# EAGLE library part 691309410006 (library Wurth_Elektronik_Electromechanic_Terminal_Blocks_Connectors_rev16b)
WR - TBL Serie 3094 - 7.62mm Reversed Gender Horizontal PCB Header=>Code : Con_TBL_Pluggable_7.62_PCB_H <http://katalog.we-online.de/media/images/eican/Con_TBL_Pluggable_7.62_PCB_H_6913094100xx_pf2.jpg> Details see: http://katalog.we-online.de/en/em/TBL_7_62_3097_REVERSED_GENDER_HORIZONTAL_PCB_HEADER_69130941000X Created 2014-06-25, Karrer Zheng 2014 (C) Würth Elektronik
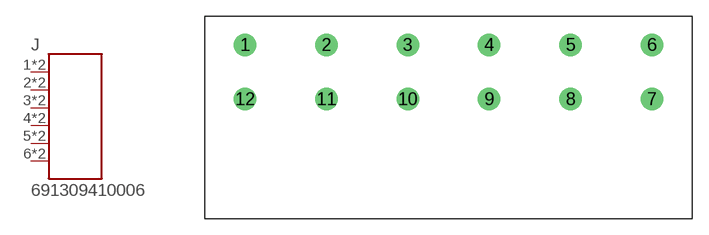
[diagram p186: symbol with the pads of 691309410006; footprint 691309410006]

Designator prefix J

## 691309410006  [691309410006]
1  1  pas
2  2  pas
3  3  pas
4  4  pas
5  5  pas
6  6  pas
7  6  pas
8  5  pas
9  4  pas
10  3  pas
11  2  pas
12  1  pas

## Footprint 691309410006 (pad centres in mm)
WR - TBL Serie 3094 - 7.62mm Reversed Gender Horizontal PCB Header , 6 pins
drill 1.4: 1 -22.86,0; 2 -15.24,0; 3 -7.62,0; 4 0,0; 5 7.62,0; 6 15.24,0; 7 15.24,-5.08; 8 7.62,-5.08; 9 0,-5.08; 10 -7.62,-5.08; 11 -15.24,-5.08; 12 -22.86,-5.08